# Altium schematic symbol library Amplifier_Audio.SchLib: 99 symbols (part 1 of 2)
Pins are listed as number, name and electrical type; pins without a type are passive.

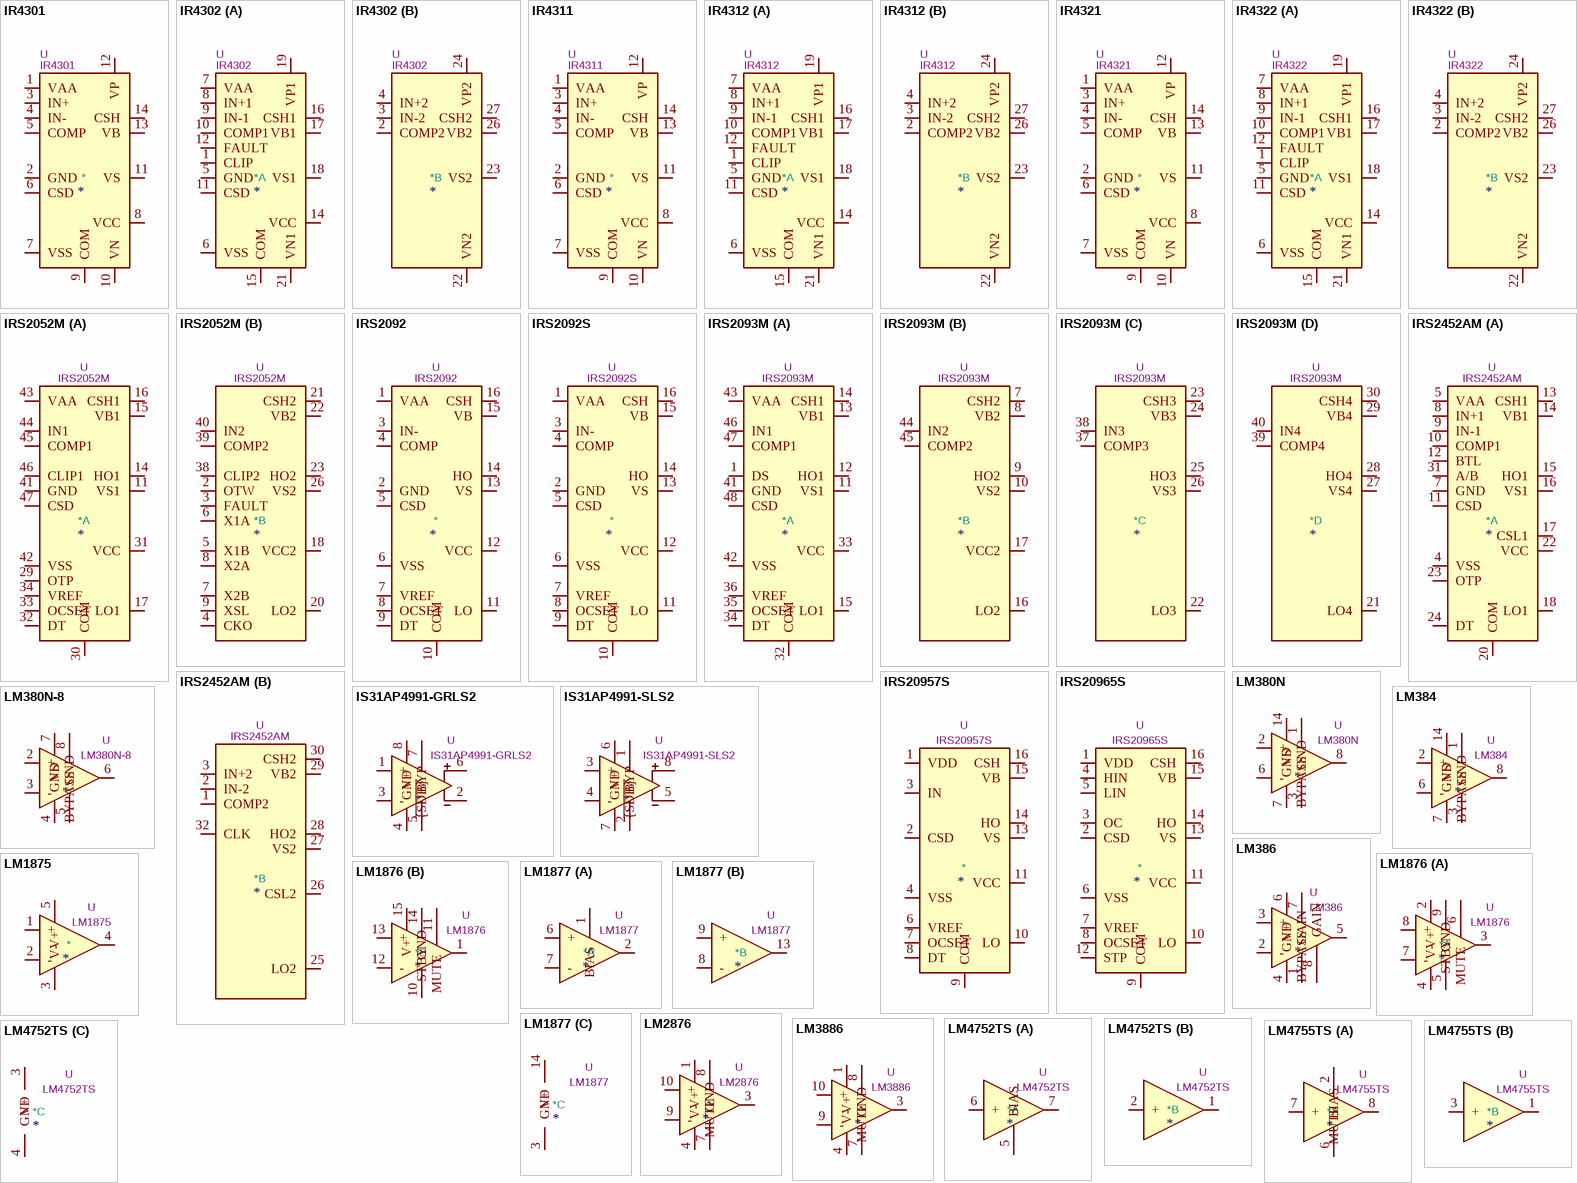
[diagram p0: symbols IR4301 to LM4755TS]

## IR4301
designator *  value IR4301  Reference: U
ki_keywords: integrated class d amplifier; ki_description: PowIRaudio Integrated Analog Input Class D Audio Amplifier, 160W/4ohm, 80V, PQFN-22; ki_fp_filters: Infineon*PQFN*4EP*6x5mm*P0.65mm*; Footprint: Package_DFN_QFN:Infineon_PQFN-22-15-4EP_6x5mm_P0.65mm; Datasheet: https://www.infineon.com/dgdl/ir4301.pdf?fileId=5546d462533600a4015355d5fc691819
pins: 1 VAA, 2 GND, 3 IN+, 4 IN-, 5 COMP, 6 CSD, 7 VSS, 8 VCC, 9 COM, 10 VN, 11 VS, 12 VP, 13 VB, 14 CSH, 15 COM hidden

## IR4302
designator *  value IR4302  Reference: U
ki_keywords: integrated class d amplifier 2ch; ki_description: PowIRaudio 2 Channel Integrated Analog Input Class D Audio Amplifier, 130W/4ohm, 80V, PQFN-44; ki_fp_filters: Infineon*PQFN*5EP*7x7mm*P0.5mm*; Footprint: Package_DFN_QFN:Infineon_PQFN-44-31-5EP_7x7mm_P0.5mm; Datasheet: https://www.infineon.com/dgdl/ir4302.pdf?fileId=5546d462533600a4015355d602a9181d
part A pins: 1 CLIP, 5 GND, 6 VSS, 7 VAA, 8 IN+1, 9 IN-1, 10 COMP1, 11 CSD, 12 FAULT, 13 NC hidden, 14 VCC, 15 COM, 16 CSH1, 17 VB1, 18 VS1, 19 VP1, 20 VS1 hidden, 21 VN1, 28 COM hidden, 29 NC hidden, 30 NC hidden, 31 COM hidden
part B pins: 2 COMP2, 3 IN-2, 4 IN+2, 22 VN2, 23 VS2, 24 VP2, 25 VS2 hidden, 26 VB2, 27 CSH2

## IR4311
designator *  value IR4311  Reference: U
ki_keywords: integrated class d amplifier; ki_description: PowIRaudio Integrated Analog Input Class D Audio Amplifier, 90W/4ohm, 60V, PQFN-22; ki_fp_filters: Infineon*PQFN*4EP*6x5mm*P0.65mm*; Footprint: Package_DFN_QFN:Infineon_PQFN-22-15-4EP_6x5mm_P0.65mm; Datasheet: https://www.infineon.com/dgdl/ir4301.pdf?fileId=5546d462533600a4015355d5fc691819
pins: 1 VAA, 2 GND, 3 IN+, 4 IN-, 5 COMP, 6 CSD, 7 VSS, 8 VCC, 9 COM, 10 VN, 11 VS, 12 VP, 13 VB, 14 CSH, 15 COM hidden

## IR4312
designator *  value IR4312  Reference: U
ki_keywords: integrated class d amplifier 2ch; ki_description: PowIRaudio 2 Channel Integrated Analog Input Class D Audio Amplifier, 100W/4ohm, 60V, PQFN-44; ki_fp_filters: Infineon*PQFN*5EP*7x7mm*P0.5mm*; Footprint: Package_DFN_QFN:Infineon_PQFN-44-31-5EP_7x7mm_P0.5mm; Datasheet: https://www.infineon.com/dgdl/ir4302.pdf?fileId=5546d462533600a4015355d602a9181d
part A pins: 1 CLIP, 5 GND, 6 VSS, 7 VAA, 8 IN+1, 9 IN-1, 10 COMP1, 11 CSD, 12 FAULT, 13 NC hidden, 14 VCC, 15 COM, 16 CSH1, 17 VB1, 18 VS1, 19 VP1, 20 VS1 hidden, 21 VN1, 28 COM hidden, 29 NC hidden, 30 NC hidden, 31 COM hidden
part B pins: 2 COMP2, 3 IN-2, 4 IN+2, 22 VN2, 23 VS2, 24 VP2, 25 VS2 hidden, 26 VB2, 27 CSH2

## IR4321
designator *  value IR4321  Reference: U
ki_keywords: integrated class d amplifier; ki_description: PowIRaudio Integrated Analog Input Class D Audio Amplifier, 35W/4ohm, 40V, PQFN-22; ki_fp_filters: Infineon*PQFN*4EP*6x5mm*P0.65mm*; Footprint: Package_DFN_QFN:Infineon_PQFN-22-15-4EP_6x5mm_P0.65mm; Datasheet: https://www.infineon.com/dgdl/ir4301.pdf?fileId=5546d462533600a4015355d5fc691819
pins: 1 VAA, 2 GND, 3 IN+, 4 IN-, 5 COMP, 6 CSD, 7 VSS, 8 VCC, 9 COM, 10 VN, 11 VS, 12 VP, 13 VB, 14 CSH, 15 COM hidden

## IR4322
designator *  value IR4322  Reference: U
ki_keywords: integrated class d amplifier 2ch; ki_description: PowIRaudio 2 Channel Integrated Analog Input Class D Audio Amplifier, 35W/4ohm, 40V, PQFN-44; ki_fp_filters: Infineon*PQFN*5EP*7x7mm*P0.5mm*; Footprint: Package_DFN_QFN:Infineon_PQFN-44-31-5EP_7x7mm_P0.5mm; Datasheet: https://www.infineon.com/dgdl/ir4302.pdf?fileId=5546d462533600a4015355d602a9181d
part A pins: 1 CLIP, 5 GND, 6 VSS, 7 VAA, 8 IN+1, 9 IN-1, 10 COMP1, 11 CSD, 12 FAULT, 13 NC hidden, 14 VCC, 15 COM, 16 CSH1, 17 VB1, 18 VS1, 19 VP1, 20 VS1 hidden, 21 VN1, 28 COM hidden, 29 NC hidden, 30 NC hidden, 31 COM hidden
part B pins: 2 COMP2, 3 IN-2, 4 IN+2, 22 VN2, 23 VS2, 24 VP2, 25 VS2 hidden, 26 VB2, 27 CSH2

## IRS2052M
designator *  value IRS2052M  Reference: U
ki_keywords: Gate Driver Class D 2ch; ki_description: 2 CH Digital Audio Amplifier, PWM Modulator, +/-100V, 0.5/0.6A, MLPQ-48; ki_fp_filters: Infineon*MLPQ*1EP*7x7mm*P0.5mm*; Footprint: Package_DFN_QFN:Infineon_MLPQ-48-1EP_7x7mm_P0.5mm_EP5.55x5.55mm; Datasheet: https://www.infineon.com/dgdl/irs2052mpbf.pdf?fileId=5546d462533600a401535675d3b32788
part A pins: 1 NC hidden, 10 NC hidden, 11 VS1, 12 NC hidden, 13 NC hidden, 14 HO1, 15 VB1, 16 CSH1, 17 LO1, 19 COM hidden, 24 NC hidden, 25 NC hidden, 27 NC hidden, 28 NC hidden, 29 OTP, 30 COM, 31 VCC, 32 DT, 33 OCSET, 34 VREF, 35 NC hidden, 36 NC hidden, 37 NC hidden, 41 GND, 42 VSS, 43 VAA, 44 IN1, 45 COMP1, 46 CLIP1, 47 CSD, 48 NC hidden, 49 COM hidden
part B pins: 2 OTW, 3 FAULT, 4 CKO, 5 X1B, 6 X1A, 7 X2B, 8 X2A, 9 XSL, 18 VCC2, 20 LO2, 21 CSH2, 22 VB2, 23 HO2, 26 VS2, 38 CLIP2, 39 COMP2, 40 IN2

## IRS2092
designator *  value IRS2092  Reference: U
ki_keywords: Gate Driver Class D; ki_description: Protected Digital Audio Amplifier, PWM Modulator, +/-100V, 1.0/1.2A, PDIP-16; ki_fp_filters: DIP*W7.62mm*; Footprint: Package_DIP:DIP-16_W7.62mm; Datasheet: http://www.infineon.com/dgdl/irs2092.pdf?fileId=5546d462533600a401535675f1be2790
pins: 1 VAA, 2 GND, 3 IN-, 4 COMP, 5 CSD, 6 VSS, 7 VREF, 8 OCSET, 9 DT, 10 COM, 11 LO, 12 VCC, 13 VS, 14 HO, 15 VB, 16 CSH

## IRS2092S
designator *  value IRS2092S  Reference: U
ki_keywords: Gate Driver Class D; ki_description: Protected Digital Audio Amplifier, PWM Modulator, +/-100V, 1.0/1.2A, SOIC-16; ki_fp_filters: SOIC*3.9x9.9mm*P1.27mm*; Footprint: Package_SO:SOIC-16_3.9x9.9mm_P1.27mm; Datasheet: http://www.infineon.com/dgdl/irs2092.pdf?fileId=5546d462533600a401535675f1be2790
pins: 1 VAA, 2 GND, 3 IN-, 4 COMP, 5 CSD, 6 VSS, 7 VREF, 8 OCSET, 9 DT, 10 COM, 11 LO, 12 VCC, 13 VS, 14 HO, 15 VB, 16 CSH

## IRS2093M
designator *  value IRS2093M  Reference: U
ki_keywords: Gate Driver Class D 4ch; ki_description: 4 CH Digital Audio Amplifier, PWM Modulator, +/-100V, 0.5/0.6A, MLPQ-48; ki_fp_filters: Infineon*MLPQ*1EP*7x7mm*P0.5mm*; Footprint: Package_DFN_QFN:Infineon_MLPQ-48-1EP_7x7mm_P0.5mm_EP5.55x5.55mm; Datasheet: https://www.infineon.com/dgdl/irs2093mpbf.pdf?fileId=5546d462533600a401535675fb892793
part A pins: 1 DS, 2 NC hidden, 3 NC hidden, 4 NC hidden, 5 NC hidden, 6 NC hidden, 11 VS1, 12 HO1, 13 VB1, 14 CSH1, 15 LO1, 18 NC hidden, 19 NC hidden, 20 COM hidden, 31 NC hidden, 32 COM, 33 VCC, 34 DT, 35 OCSET, 36 VREF, 41 GND, 42 VSS, 43 VAA, 46 IN1, 47 COMP1, 48 CSD, 49 COM hidden
part B pins: 7 CSH2, 8 VB2, 9 HO2, 10 VS2, 16 LO2, 17 VCC2, 44 IN2, 45 COMP2
part C pins: 22 LO3, 23 CSH3, 24 VB3, 25 HO3, 26 VS3, 37 COMP3, 38 IN3
part D pins: 21 LO4, 27 VS4, 28 HO4, 29 VB4, 30 CSH4, 39 COMP4, 40 IN4

## IRS2452AM
designator *  value IRS2452AM  Reference: U
ki_keywords: Gate Driver Class D 2ch; ki_description: Class D Audio IC, PWM Modulator, +/-200V, 0.5/0.6A, MLPQ-32; ki_fp_filters: Infineon*MLPQ*1EP*7x7mm*P0.5mm*; Footprint: Package_DFN_QFN:Infineon_MLPQ-40-32-1EP_7x7mm_P0.5mm; Datasheet: https://www.infineon.com/dgdl/Infineon-IRS2452AM-DS-v01_00-EN.pdf?fileId=5546d462584d1d4a01584ee4f1f00713
part A pins: 4 VSS, 5 VAA, 6 NC hidden, 7 GND, 8 IN+1, 9 IN-1, 10 COMP1, 11 CSD, 12 BTL, 13 CSH1, 14 VB1, 15 HO1, 16 VS1, 17 CSL1, 18 LO1, 19 NC hidden, 20 COM, 21 NC hidden, 22 VCC, 23 OTP, 24 DT, 31 A/B, 33 COM hidden
part B pins: 1 COMP2, 2 IN-2, 3 IN+2, 25 LO2, 26 CSL2, 27 VS2, 28 HO2, 29 VB2, 30 CSH2, 32 CLK

## IRS20957S
designator *  value IRS20957S  Reference: U
ki_keywords: Gate Driver Class D; ki_description: Protected Digital Audio Driver, +/-100V, 1.0/1.2A, SOIC-16; ki_fp_filters: SOIC*3.9x9.9mm*P1.27mm*; Footprint: Package_SO:SOIC-16_3.9x9.9mm_P1.27mm; Datasheet: http://www.infineon.com/dgdl/irs20957spbf.pdf?fileId=5546d462533600a401535676143e2799
pins: 1 VDD, 2 CSD, 3 IN, 4 VSS, 5 NC hidden, 6 VREF, 7 OCSET, 8 DT, 9 COM, 10 LO, 11 VCC, 12 NC hidden, 13 VS, 14 HO, 15 VB, 16 CSH

## IRS20965S
designator *  value IRS20965S  Reference: U
ki_keywords: Gate Driver Class D; ki_description: Class D Audio Driver, +/-100V, 2.0/2.0A, SOIC-16; ki_fp_filters: SOIC*3.9x9.9mm*P1.27mm*; Footprint: Package_SO:SOIC-16_3.9x9.9mm_P1.27mm; Datasheet: https://www.infineon.com/dgdl/irs20965spbf.pdf?fileId=5546d462533600a4015356761d8b279b
pins: 1 VDD, 2 CSD, 3 OC, 4 HIN, 5 LIN, 6 VSS, 7 VREF, 8 OCSET, 9 COM, 10 LO, 11 VCC, 12 STP, 13 VS, 14 HO, 15 VB, 16 CSH

## IS31AP4991-GRLS2
designator *  value IS31AP4991-GRLS2  Reference: U
ki_keywords: ultra low consumption distortion; ki_description: 1.2W, 2.7-5.5V, Audio Power Amplifier, Active-Low Standby, SOP-8; ki_fp_filters: SOP*3.9x4.9mm*P1.27mm*; Footprint: Package_SO:SOP-8_3.9x4.9mm_P1.27mm; Datasheet: http://www.issi.com/WW/pdf/31AP4991.pdf
pins: 1 +, 2, 3 -, 4 GND, 5 BYP, 6, 7 ~{{SDB}}, 8 V+

## IS31AP4991-SLS2
designator *  value IS31AP4991-SLS2  Reference: U
ki_keywords: ultra low consumption distortion; ki_description: 1.2W, 2.7-5.5V, Audio Power Amplifier, Active-Low Standby, MSOP-8; ki_fp_filters: MSOP*3x3mm*P0.65mm*; Footprint: Package_SO:MSOP-8_3x3mm_P0.65mm; Datasheet: http://www.issi.com/WW/pdf/31AP4991.pdf
pins: 1 ~{{SDB}}, 2 BYP, 3 +, 4 -, 5, 6 V+, 7 GND, 8

## LM380N
designator *  value LM380N  Reference: U
ki_keywords: audio amplifier; ki_description: 2.5W Audio Power Amplifier, PDIP-14; ki_fp_filters: DIP*W7.62mm*; Footprint: Package_DIP:DIP-14_W7.62mm; Datasheet: http://www.ti.com/lit/ds/symlink/lm380.pdf
pins: 1 BYPASS, 2 +, 3 GND, 4 GND hidden, 5 GND hidden, 6 -, 7 GND, 8, 9 NC hidden, 10 GND hidden, 11 GND hidden, 12 GND hidden, 13 NC hidden, 14 VS

## LM380N-8
designator *  value LM380N-8  Reference: U
ki_keywords: audio amplifier; ki_description: 2.5W Audio Power Amplifier, PDIP-8; ki_fp_filters: DIP*W7.62mm*; Footprint: Package_DIP:DIP-8_W7.62mm; Datasheet: http://www.ti.com/lit/ds/symlink/lm380.pdf
pins: 1 NC hidden, 2 +, 3 -, 4 GND, 5 GND, 6, 7 VS, 8 BYPASS

## LM384
designator *  value LM384  Reference: U
ki_keywords: audio amplifier; ki_description: 5W Audio Power Amplifier, PDIP-14; ki_fp_filters: DIP*W7.62mm*; Footprint: Package_DIP:DIP-14_W7.62mm; Datasheet: http://www.ti.com/lit/ds/symlink/lm384.pdf
pins: 1 BYPASS, 2 +, 3 GND, 4 GND hidden, 5 GND hidden, 6 -, 7 GND, 8, 9 NC hidden, 10 GND hidden, 11 GND hidden, 12 GND hidden, 13 NC hidden, 14 VS

## LM386
designator *  value LM386  Reference: U
ki_keywords: single Power opamp; ki_description: Low Voltage Audio Power Amplifier, DIP-8/SOIC-8/SSOP-8; ki_fp_filters: SOIC*3.9x4.9mm*P1.27mm* DIP*W7.62mm* MSSOP*P0.65mm* TSSOP*3x3mm*P0.5mm*; Datasheet: http://www.ti.com/lit/ds/symlink/lm386.pdf
pins: 1 GAIN, 2 -, 3 +, 4 GND, 5, 6 V+, 7 BYPASS, 8 GAIN

## LM1875
designator *  value LM1875  Reference: U
ki_keywords: audio amplifier; ki_description: 20W Audio Power Amplifier, TO-220-5; ki_fp_filters: TO?220*StaggerOdd*; Footprint: Package_TO_SOT_THT:TO-220-5_P3.4x3.7mm_StaggerOdd_Lead3.8mm_Vertical; Datasheet: http://www.ti.com/lit/ds/symlink/lm1875.pdf
pins: 1 +, 2 -, 3 V-, 4, 5 V+

## LM1876
designator *  value LM1876  Reference: U
ki_keywords: audio amplifier 2ch; ki_description: Overture Audio Power Amplifier Series Dual 20W Audio Power Amplifier with Mute and Standby Modes, TO-220-15; ki_fp_filters: TO?220*StaggerOdd*; Footprint: Package_TO_SOT_THT:TO-220-15_P2.54x2.54mm_StaggerOdd_Lead4.58mm_Vertical; Datasheet: http://www.ti.com/lit/ds/symlink/lm1876.pdf
part A pins: 2 V+, 3, 4 V-, 5 GND, 6 MUTE, 7 -, 8 +, 9 STBY
part B pins: 1, 10 GND, 11 MUTE, 12 -, 13 +, 14 STBY, 15 V+

## LM1877
designator *  value LM1877  Reference: U
ki_keywords: audio amplifier 2ch; ki_description: Dual Audio Power Amplifier, PDIP-14/SOIC-14; ki_fp_filters: SOIC*7.5x9mm*P1.27mm* DIP*W7.62mm*; Datasheet: http://www.ti.com/lit/ds/symlink/lm1877.pdf
part A pins: 1 BIAS, 2, 6 +, 7 -
part B pins: 8 -, 9 +, 13
part C pins: 3 GND, 4 GND hidden, 5 GND hidden, 10 GND hidden, 11 GND hidden, 12 GND hidden, 14 V+

## LM2876
designator *  value LM2876  Reference: U
ki_keywords: audio amplifier 2ch; ki_description: Overture Audio Power Amplifier Series High-Performance 40W Audio Power Amplifier w/Mute, TO-220-11; ki_fp_filters: TO?220*StaggerOdd*; Footprint: Package_TO_SOT_THT:TO-220-11_P3.4x5.08mm_StaggerOdd_Lead4.85mm_Vertical; Datasheet: http://www.ti.com/lit/ds/symlink/lm2876.pdf
pins: 1 V+, 2 NC hidden, 3, 4 V-, 5 NC hidden, 6 NC hidden, 7 GND, 8 MUTE, 9 -, 10 +, 11 NC hidden

## LM3886
designator *  value LM3886  Reference: U
ki_keywords: audio amplifier; ki_description: Overture Audio Power Amplifier Series High-Performance 68W Audio Power Amplifier w/Mute, TO-220-11; ki_fp_filters: TO?220*StaggerOdd*; Footprint: Package_TO_SOT_THT:TO-220-11_P3.4x5.08mm_StaggerOdd_Lead4.85mm_Vertical; Datasheet: http://www.ti.com/lit/ds/symlink/lm3886.pdf
pins: 1 V+, 2 NC hidden, 3, 4 V-, 5 V+ hidden, 6 NC hidden, 7 GND, 8 MUTE, 9 -, 10 +, 11 NC hidden

## LM4752TS
designator *  value LM4752TS  Reference: U
ki_keywords: audio amplifier 2ch; ki_description: Stereo 11W Audio Power Amplifier, TO-263-7; ki_fp_filters: TO?263*TabPin4*; Footprint: Package_TO_SOT_SMD:TO-263-7_TabPin4; Datasheet: http://www.ti.com/lit/ds/symlink/lm4752.pdf
part A pins: 5 BIAS, 6 +, 7
part B pins: 1, 2 +
part C pins: 3 V+, 4 GND

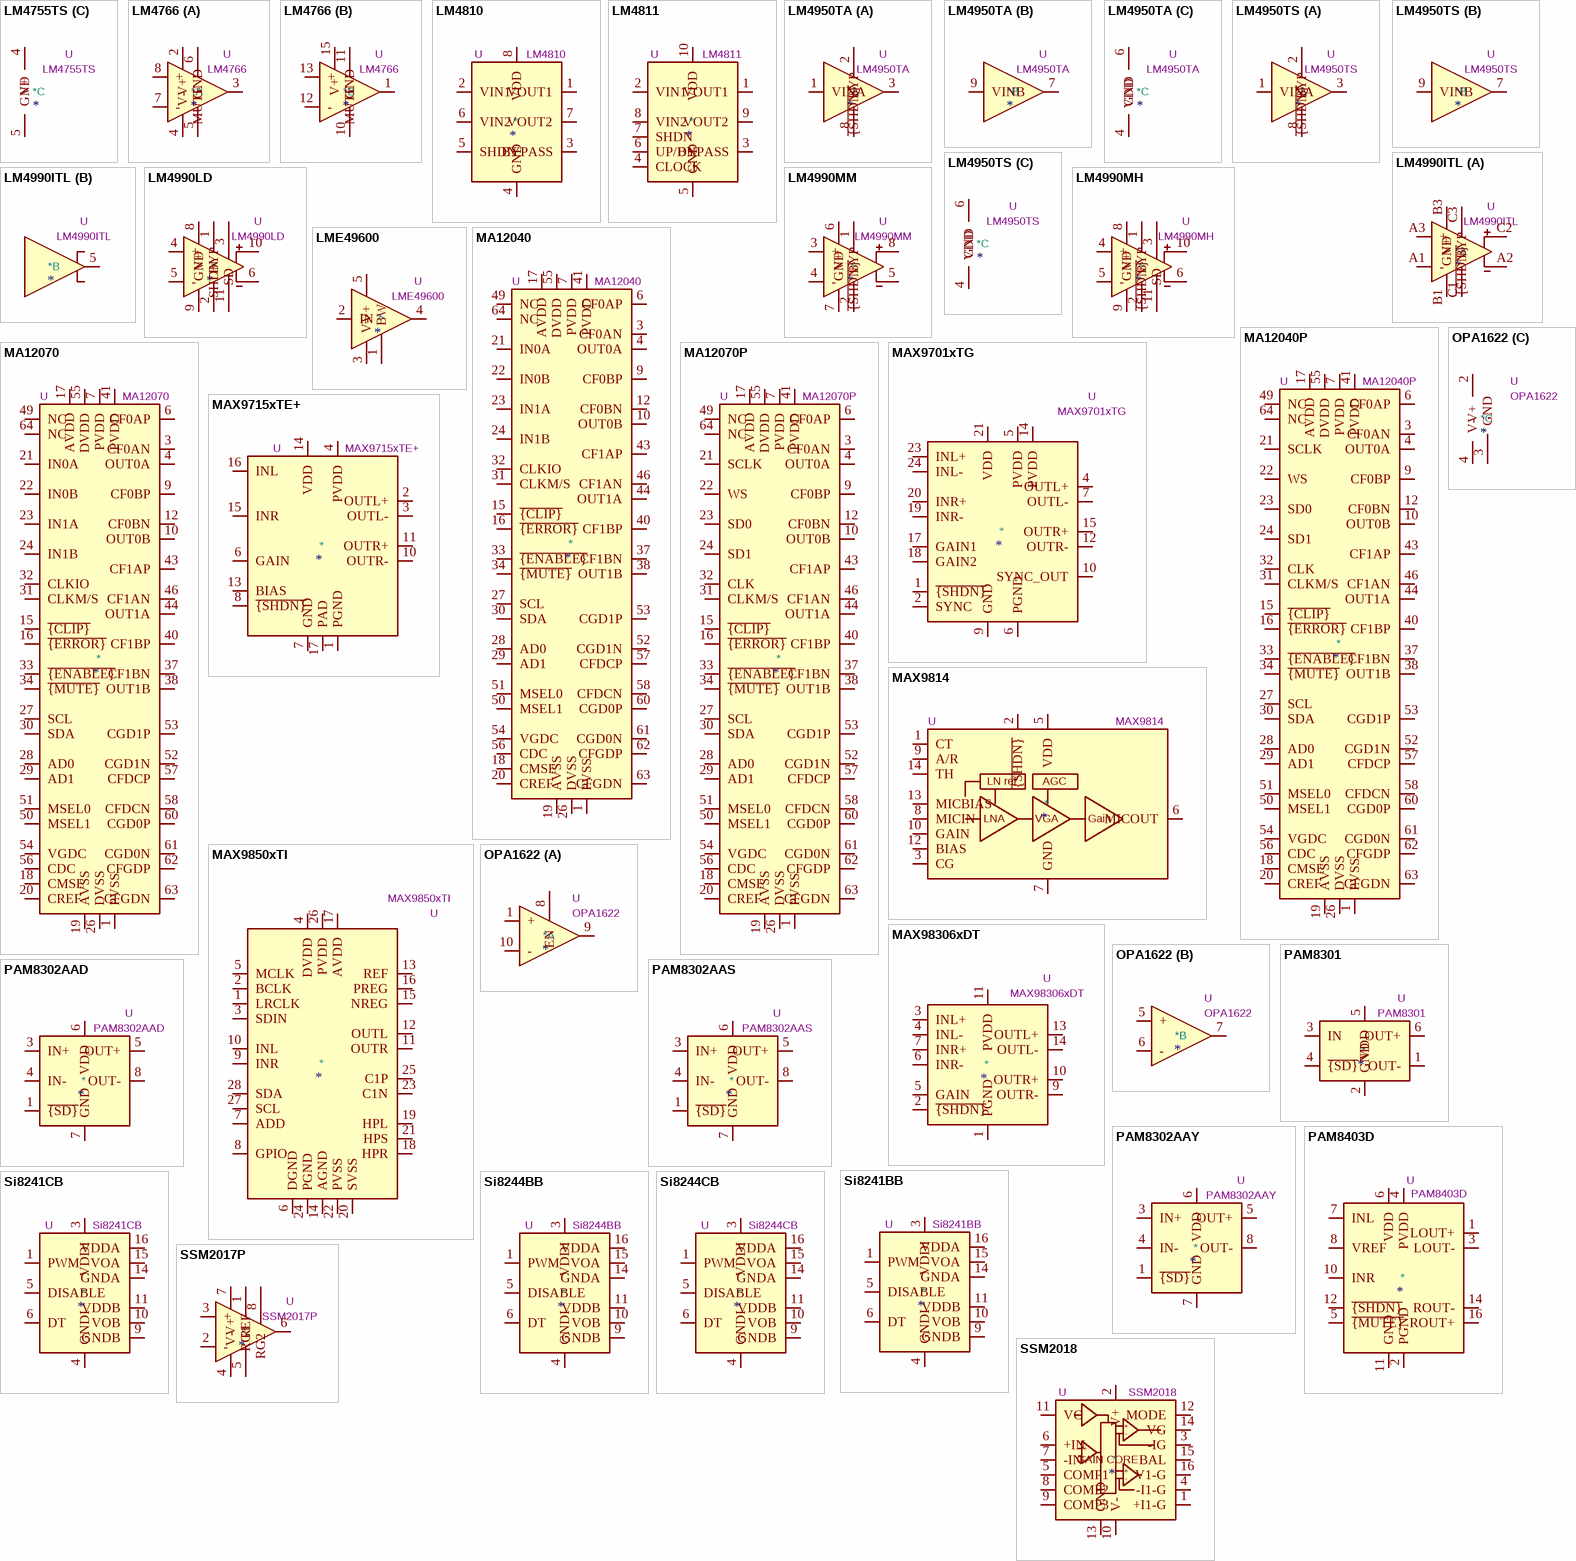
[diagram p1: symbols LM4755TS to SSM2018]

## LM4755TS
designator *  value LM4755TS  Reference: U
ki_keywords: audio amplifier 2ch; ki_description: Stereo 11W Audio Power Amplifier with Mute, TO-263-9; ki_fp_filters: TO?263*TabPin5*; Footprint: Package_TO_SOT_SMD:TO-263-9_TabPin5; Datasheet: http://www.ti.com/lit/ds/symlink/lm4755.pdf
part A pins: 2 MUTE, 6 BIAS, 7 +, 8, 9 NC hidden
part B pins: 1, 3 +
part C pins: 4 V+, 5 GND

## LM4766
designator *  value LM4766  Reference: U
ki_keywords: audio amplifier 2ch; ki_description: Overture Audio Power Amplifier Series Dual 40W Audio Power Amplifier with Mute, TO-220-15; ki_fp_filters: TO?220*StaggerOdd*; Footprint: Package_TO_SOT_THT:TO-220-15_P2.54x2.54mm_StaggerOdd_Lead4.58mm_Vertical; Datasheet: http://www.ti.com/lit/ds/symlink/lm4766.pdf
part A pins: 2 V+, 3, 4 V-, 5 GND, 6 MUTE, 7 -, 8 +, 9 NC hidden
part B pins: 1, 10 GND, 11 MUTE, 12 -, 13 +, 14 NC hidden, 15 V+

## LM4810
designator *  value LM4810  Reference: U
ki_keywords: audio amplifier headphone; ki_description: Boomer Dual 105mW Headphone Amplifier with Active-High Shutdown Mode, VSSOP-8; ki_fp_filters: TSSOP*3x3mm*P0.65mm*; Footprint: Package_SO:TSSOP-8_3x3mm_P0.65mm; Datasheet: http://www.ti.com/lit/ds/symlink/lm4810.pdf
pins: 1 VOUT1, 2 VIN1, 3 BYPASS, 4 GND, 5 SHDN, 6 VIN2, 7 VOUT2, 8 VDD

## LM4811
designator *  value LM4811  Reference: U
ki_keywords: audio amplifier headphone 2ch; ki_description: Boomer Dual 105mW Headphone Amplifier with Digital Volume Control and Shutdown Mode, VSSOP-10; ki_fp_filters: TSSOP*3x3mm*P0.5mm*; Footprint: Package_SO:TSSOP-10_3x3mm_P0.5mm; Datasheet: http://www.ti.com/lit/ds/symlink/lm4811.pdf
pins: 1 VOUT1, 2 VIN1, 3 BYPASS, 4 CLOCK, 5 GND, 6 UP/DN, 7 SHDN, 8 VIN2, 9 VOUT2, 10 VDD

## LM4950TA
designator *  value LM4950TA  Reference: U
ki_keywords: audio amplifier; ki_description: Boomer Audio Power Amplifier Series 7.5W Mono-BTL or 3.1W Stereo Audio Power Amplifier, TO-220-9; ki_fp_filters: TO?220*StaggerOdd*; Footprint: Package_TO_SOT_THT:TO-220-5_P3.4x3.7mm_StaggerOdd_Lead3.8mm_Vertical; Datasheet: http://www.ti.com/lit/ds/symlink/lm4950.pdf
part A pins: 1 VINA, 2 ~{{SHDN}}, 3, 8 BYP
part B pins: 7, 9 VINB
part C pins: 4 GND, 5 GND hidden, 6 VDD

## LM4950TS
designator *  value LM4950TS  Reference: U
ki_keywords: audio amplifier; ki_description: Boomer Audio Power Amplifier Series 7.5W Mono-BTL or 3.1W Stereo Audio Power Amplifier, TO-263-9; ki_fp_filters: TO?263*TabPin5*; Footprint: Package_TO_SOT_SMD:TO-263-9_TabPin5; Datasheet: http://www.ti.com/lit/ds/symlink/lm4950.pdf
part A pins: 1 VINA, 2 ~{{SHDN}}, 3, 8 BYP
part B pins: 7, 9 VINB
part C pins: 4 GND, 5 GND hidden, 6 VDD

## LM4990ITL
designator *  value LM4990ITL  Reference: U
ki_keywords: audio amplifier class d; ki_description: Boomer 2 Watt Audio Power Amplifier with Selectable Shutdown Logic Level, DSBGA-9; ki_fp_filters: *DSBGA*1.4715x1.4715mm*P0.5mm*; Footprint: Package_BGA:Texas_DSBGA-9_1.4715x1.4715mm_Layout3x3_P0.5mm; Datasheet: http://www.ti.com/lit/ds/symlink/lm4990.pdf
part A pins: A1 -, A2, A3 +, B1 GND, B2 GND hidden, B3 V+, C1 BYP, C2, C3 ~{{SHDN}}
part B pins: 5

## LM4990LD
designator *  value LM4990LD  Reference: U
ki_keywords: audio amplifier class d; ki_description: Boomer 2 Watt Audio Power Amplifier with Selectable Shutdown Logic Level, WSON-10; ki_fp_filters: WSON*EP*4x3mm*P0.5mm*; Footprint: Package_SON:WSON-10-1EP_4x3mm_P0.5mm_EP2.2x2mm; Datasheet: http://www.ti.com/lit/ds/symlink/lm4990.pdf
pins: 1 SHDN, 2 BYP, 3 SD, 4 +, 5 -, 6, 7 NC hidden, 8 V+, 9 GND, 10, 11

## LM4990MH
designator *  value LM4990MH  Reference: U
ki_keywords: audio amplifier class d; ki_description: Boomer 2 Watt Audio Power Amplifier with Selectable Shutdown Logic Level, MSOP-10; ki_fp_filters: MSOP*EP*3x3mm*P0.5mm*; Footprint: Package_SO:MSOP-10-1EP_3x3mm_P0.5mm_EP1.68x1.88mm; Datasheet: http://www.ti.com/lit/ds/symlink/lm4990.pdf
pins: 1 ~{{SHDN}}, 2 BYP, 3 SD, 4 +, 5 -, 6, 7 NC hidden, 8 V+, 9 GND, 10, 11

## LM4990MM
designator *  value LM4990MM  Reference: U
ki_keywords: audio amplifier class d; ki_description: Boomer 2 Watt Audio Power Amplifier with Selectable Shutdown Logic Level, VSSOP-8; ki_fp_filters: TSSOP*3x3mm*P0.65mm*; Footprint: Package_SO:TSSOP-8_3x3mm_P0.65mm; Datasheet: http://www.ti.com/lit/ds/symlink/lm4990.pdf
pins: 1 ~{{SHDN}}, 2 BYP, 3 +, 4 -, 5, 6 V+, 7 GND, 8

## LME49600
designator *  value LME49600  Reference: U
ki_keywords: audio buffer amplifier; ki_description: High-Performance, High-Fidelity, High-Current Headphone Buffer, 250mA, TO-263; ki_fp_filters: TO?263*; Footprint: Package_TO_SOT_SMD:TO-263-5_TabPin3; Datasheet: http://www.ti.com/lit/ds/symlink/lme49600.pdf
pins: 1 BW, 2 IN, 3 V-, 4, 5 V+

## MA12040
designator *  value MA12040  Reference: U
ki_keywords: integrated class d amplifier; ki_description: Filterless and High-Efficiency +4V to +18V Audio Amplifier with Analog Input, QFN-64; ki_fp_filters: QFN*1EP*9x9mm*P0.5mm*; Footprint: Package_DFN_QFN:QFN-64-1EP_9x9mm_P0.5mm_EP5.45x5.45mm; Datasheet: https://www.infineon.com/dgdl/Infineon-MA12040-DS-v01_00-EN.pdf?fileId=5546d46264a8de7e0164b7467a3d617c
pins: 1 PVSS, 2 PVSS hidden, 3 CF0AN, 4 OUT0A, 5 OUT0A hidden, 6 CF0AP, 7 PVDD, 8 PVDD hidden, 9 CF0BP, 10 OUT0B, 11 OUT0B hidden, 12 CF0BN, 13 PVSS hidden, 14 PVSS hidden, 15 ~{{CLIP}}, 16 ~{{ERROR}}, 17 AVDD, 18 CMSE, 19 AVSS, 20 CREF, 21 IN0A, 22 IN0B, 23 IN1A, 24 IN1B, 25 AVSS hidden, 26 DVSS, 27 SCL, 28 AD0, 29 AD1, 30 SDA, 31 CLKM/S, 32 CLKIO, 33 ~{{ENABLE}}, 34 ~{{MUTE}}, 35 PVSS hidden, 36 PVSS hidden, 37 CF1BN, 38 OUT1B, 39 OUT1B hidden, 40 CF1BP, 41 PVDD, 42 PVDD hidden, 43 CF1AP, 44 OUT1A, 45 OUT1A hidden, 46 CF1AN, 47 PVSS hidden, 48 PVSS hidden, 49 NC, 50 MSEL1, 51 MSEL0, 52 CGD1N, 53 CGD1P, 54 VGDC, 55 DVDD, 56 CDC, 57 CFDCP, 58 CFDCN, 59 DVSS hidden, 60 CGD0P, 61 CGD0N, 62 CFGDP, 63 CFGDN, 64 NC

## MA12040P
designator *  value MA12040P  Reference: U
ki_keywords: integrated class d amplifier; ki_description: Filterless and High-Efficiency +4V to +18V Audio Amplifier with I2S Digital Input, QFN-64; ki_fp_filters: QFN*1EP*9x9mm*P0.5mm*; Footprint: Package_DFN_QFN:QFN-64-1EP_9x9mm_P0.5mm_EP5.45x5.45mm; Datasheet: https://www.infineon.com/dgdl/Infineon-MA12040P-DS-v01_00-EN.pdf?fileId=5546d46264a8de7e0164b74ff0e561a2
pins: 1 PVSS, 2 PVSS hidden, 3 CF0AN, 4 OUT0A, 5 OUT0A hidden, 6 CF0AP, 7 PVDD, 8 PVDD hidden, 9 CF0BP, 10 OUT0B, 11 OUT0B hidden, 12 CF0BN, 13 PVSS hidden, 14 PVSS hidden, 15 ~{{CLIP}}, 16 ~{{ERROR}}, 17 AVDD, 18 CMSE, 19 AVSS, 20 CREF, 21 SCLK, 22 WS, 23 SD0, 24 SD1, 25 AVSS hidden, 26 DVSS, 27 SCL, 28 AD0, 29 AD1, 30 SDA, 31 CLKM/S, 32 CLK, 33 ~{{ENABLE}}, 34 ~{{MUTE}}, 35 PVSS hidden, 36 PVSS hidden, 37 CF1BN, 38 OUT1B, 39 OUT1B hidden, 40 CF1BP, 41 PVDD, 42 PVDD hidden, 43 CF1AP, 44 OUT1A, 45 OUT1A hidden, 46 CF1AN, 47 PVSS hidden, 48 PVSS hidden, 49 NC, 50 MSEL1, 51 MSEL0, 52 CGD1N, 53 CGD1P, 54 VGDC, 55 DVDD, 56 CDC, 57 CFDCP, 58 CFDCN, 59 DVSS hidden, 60 CGD0P, 61 CGD0N, 62 CFGDP, 63 CFGDN, 64 NC

## MA12070
designator *  value MA12070  Reference: U
ki_keywords: integrated class d amplifier; ki_description: Filterless and High-Efficiency +4V to +26V Audio Amplifier with Analog Input, QFN-64; ki_fp_filters: QFN*1EP*9x9mm*P0.5mm*; Footprint: Package_DFN_QFN:QFN-64-1EP_9x9mm_P0.5mm_EP5.45x5.45mm; Datasheet: https://www.infineon.com/dgdl/Infineon-MA12070-DS-v01_00-EN.pdf?fileId=5546d46264a8de7e0164b750002861a5
pins: 1 PVSS, 2 PVSS hidden, 3 CF0AN, 4 OUT0A, 5 OUT0A hidden, 6 CF0AP, 7 PVDD, 8 PVDD hidden, 9 CF0BP, 10 OUT0B, 11 OUT0B hidden, 12 CF0BN, 13 PVSS hidden, 14 PVSS hidden, 15 ~{{CLIP}}, 16 ~{{ERROR}}, 17 AVDD, 18 CMSE, 19 AVSS, 20 CREF, 21 IN0A, 22 IN0B, 23 IN1A, 24 IN1B, 25 AVSS hidden, 26 DVSS, 27 SCL, 28 AD0, 29 AD1, 30 SDA, 31 CLKM/S, 32 CLKIO, 33 ~{{ENABLE}}, 34 ~{{MUTE}}, 35 PVSS hidden, 36 PVSS hidden, 37 CF1BN, 38 OUT1B, 39 OUT1B hidden, 40 CF1BP, 41 PVDD, 42 PVDD hidden, 43 CF1AP, 44 OUT1A, 45 OUT1A hidden, 46 CF1AN, 47 PVSS hidden, 48 PVSS hidden, 49 NC, 50 MSEL1, 51 MSEL0, 52 CGD1N, 53 CGD1P, 54 VGDC, 55 DVDD, 56 CDC, 57 CFDCP, 58 CFDCN, 59 DVSS hidden, 60 CGD0P, 61 CGD0N, 62 CFGDP, 63 CFGDN, 64 NC

## MA12070P
designator *  value MA12070P  Reference: U
ki_keywords: integrated class d amplifier; ki_description: Filterless and High-Efficiency +4V to +26V Audio Amplifier with I2S Digital Input, QFN-64; ki_fp_filters: QFN*1EP*9x9mm*P0.5mm*; Footprint: Package_DFN_QFN:QFN-64-1EP_9x9mm_P0.5mm_EP5.45x5.45mm; Datasheet: https://www.infineon.com/dgdl/Infineon-MA12070P-DS-v01_00-EN.pdf?fileId=5546d46264a8de7e0164b761f2f261e4
pins: 1 PVSS, 2 PVSS hidden, 3 CF0AN, 4 OUT0A, 5 OUT0A hidden, 6 CF0AP, 7 PVDD, 8 PVDD hidden, 9 CF0BP, 10 OUT0B, 11 OUT0B hidden, 12 CF0BN, 13 PVSS hidden, 14 PVSS hidden, 15 ~{{CLIP}}, 16 ~{{ERROR}}, 17 AVDD, 18 CMSE, 19 AVSS, 20 CREF, 21 SCLK, 22 WS, 23 SD0, 24 SD1, 25 AVSS hidden, 26 DVSS, 27 SCL, 28 AD0, 29 AD1, 30 SDA, 31 CLKM/S, 32 CLK, 33 ~{{ENABLE}}, 34 ~{{MUTE}}, 35 PVSS hidden, 36 PVSS hidden, 37 CF1BN, 38 OUT1B, 39 OUT1B hidden, 40 CF1BP, 41 PVDD, 42 PVDD hidden, 43 CF1AP, 44 OUT1A, 45 OUT1A hidden, 46 CF1AN, 47 PVSS hidden, 48 PVSS hidden, 49 NC, 50 MSEL1, 51 MSEL0, 52 CGD1N, 53 CGD1P, 54 VGDC, 55 DVDD, 56 CDC, 57 CFDCP, 58 CFDCN, 59 DVSS hidden, 60 CGD0P, 61 CGD0N, 62 CFGDP, 63 CFGDN, 64 NC

## MAX9701xTG
designator *  value MAX9701xTG  Reference: U
ki_keywords: stereo power amplifier; ki_description: Stereo class D power amplifier, 1.3W, TQFN-24; ki_fp_filters: TQFN*1EP*4x4mm*P0.5mm*; Footprint: Package_DFN_QFN:TQFN-24-1EP_4x4mm_P0.5mm_EP2.6x2.6mm; Datasheet: https://datasheets.maximintegrated.com/en/ds/MAX9701.pdf
pins: 1 ~{{SHDN}}, 2 SYNC, 3 NC hidden, 4 OUTL+, 5 PVDD, 6 PGND, 7 OUTL-, 8 NC hidden, 9 GND, 10 SYNC_OUT, 11 NC hidden, 12 OUTR-, 13 PGND hidden, 14 PVDD, 15 OUTR+, 16 NC hidden, 17 GAIN1, 18 GAIN2, 19 INR-, 20 INR+, 21 VDD, 22 GND hidden, 23 INL+, 24 INL-, 25 GND hidden

## MAX9715xTE+
designator *  value MAX9715xTE+  Reference: U
ki_keywords: Class-D Stereo; ki_description: 2.8W, Low-EMI, Stereo, Filterless Class D Audio Amplifier, TQFN-16; ki_fp_filters: TQFN*1EP*5x5mm*P0.8mm*; Footprint: Package_DFN_QFN:TQFN-16-1EP_5x5mm_P0.8mm_EP3.1x3.1mm; Datasheet: https://datasheets.maximintegrated.com/en/ds/MAX9715.pdf
pins: 1 PGND, 2 OUTL+, 3 OUTL-, 4 PVDD, 5 NC hidden, 6 GAIN, 7 GND, 8 ~{{SHDN}}, 9 PVDD hidden, 10 OUTR-, 11 OUTR+, 12 PGND hidden, 13 BIAS, 14 VDD, 15 INR, 16 INL, 17 PAD

## MAX9814
designator *  value MAX9814  Reference: U
ki_keywords: audio microphone amplifier; ki_description: Microphone Amplifier with AGC and Low-Noise Microphone Bias, TDFN-14; ki_fp_filters: *DFN*EP*3x3mm*P0.4mm*; Footprint: Package_DFN_QFN:DFN-14-1EP_3x3mm_P0.4mm_EP1.78x2.35mm; Datasheet: https://datasheets.maximintegrated.com/en/ds/MAX9814.pdf
pins: 1 CT, 2 ~{{SHDN}}, 3 CG, 4 GND hidden, 5 VDD, 6 MICOUT, 7 GND, 8 MICIN, 9 A/R, 10 GAIN, 11 GND hidden, 12 BIAS, 13 MICBIAS, 14 TH, 15 GND hidden
text: LN ref; AGC; LNA; VGA; Gain

## MAX9850xTI
designator *  value MAX9850xTI  Reference: U
ki_keywords: audio ampflifier stereo i2s; ki_description: Stereo audio DAC with headphone amplifier, TQFN-28; ki_fp_filters: TQFN*1EP*5x5mm*P0.5mm*; Footprint: Package_DFN_QFN:TQFN-28-1EP_5x5mm_P0.5mm_EP3.25x3.25mm_ThermalVias; Datasheet: https://datasheets.maximintegrated.com/en/ds/MAX9850.pdf
pins: 1 LRCLK, 2 BCLK, 3 SDIN, 4 DVDD, 5 MCLK, 6 DGND, 7 ADD, 8 GPIO, 9 INR, 10 INL, 11 OUTR, 12 OUTL, 13 REF, 14 AGND, 15 NREG, 16 PREG, 17 AVDD, 18 HPR, 19 HPL, 20 SVSS, 21 HPS, 22 PVSS, 23 C1N, 24 PGND, 25 C1P, 26 PVDD, 27 SCL, 28 SDA, 29 AGND hidden

## MAX98306xDT
designator *  value MAX98306xDT  Reference: U
ki_keywords: Class-D stereo amplifier; ki_description: Stereo 3.7 W Class D Amplifier, TDFN-14; ki_fp_filters: TDFN*1EP*3x3mm*P0.4mm*; Footprint: Package_DFN_QFN:TDFN-14-1EP_3x3mm_P0.4mm_EP1.78x2.35mm; Datasheet: https://datasheets.maximintegrated.com/en/ds/MAX98306.pdf
pins: 1 PGND, 2 ~{{SHDN}}, 3 INL+, 4 INL-, 5 GAIN, 6 INR-, 7 INR+, 8 PGND hidden, 9 OUTR-, 10 OUTR+, 11 PVDD, 12 PVDD hidden, 13 OUTL+, 14 OUTL-, 15 PGND hidden

## OPA1622
designator *  value OPA1622  Reference: U
ki_keywords: dual opamp audio; ki_description: High-Fidelity, Bipolar-Input, Audio Operational Amplifier, VSON-10; ki_fp_filters: Texas*PVSON*; Footprint: Package_SON:Texas_S-PVSON-N10; Datasheet: http://www.ti.com/lit/ds/symlink/opa1622.pdf
part A pins: 1 +, 8 EN, 9, 10 -
part B pins: 5 +, 6 -, 7
part C pins: 2 V+, 3 GND, 4 V-, 11 V- hidden

## PAM8301
designator *  value PAM8301  Reference: U
ki_keywords: audio amplifier class d; ki_description: Filterless Class-D Mono Audio Amplifier, 1.5W, TSOT-26; ki_fp_filters: SOT?23*; Footprint: Package_TO_SOT_SMD:SOT-23-6; Datasheet: https://www.diodes.com/assets/Datasheets/PAM8301.pdf
pins: 1 OUT-, 2 GND, 3 IN, 4 ~{{SD}}, 5 VDD, 6 OUT+

## PAM8302AAD
designator *  value PAM8302AAD  Reference: U
ki_keywords: audio amplifier class d; ki_description: 2.5W Filterless Class-D Mono Audio Amplifier, SOIC-8; ki_fp_filters: MSOP*3x3mm*P0.65mm* SOIC*3.9x4.9mm*P1.27mm*; Datasheet: https://www.diodes.com/assets/Datasheets/PAM8302A.pdf
pins: 1 ~{{SD}}, 2 NC hidden, 3 IN+, 4 IN-, 5 OUT+, 6 VDD, 7 GND, 8 OUT-

## PAM8302AAS
designator *  value PAM8302AAS  Reference: U
ki_keywords: audio amplifier class d; ki_description: 2.5W Filterless Class-D Mono Audio Amplifier, MSOP-8; ki_fp_filters: MSOP*3x3mm*P0.65mm* SOIC*3.9x4.9mm*P1.27mm*; Datasheet: https://www.diodes.com/assets/Datasheets/PAM8302A.pdf
pins: 1 ~{{SD}}, 2 NC hidden, 3 IN+, 4 IN-, 5 OUT+, 6 VDD, 7 GND, 8 OUT-

## PAM8302AAY
designator *  value PAM8302AAY  Reference: U
ki_keywords: audio amplifier class d; ki_description: 2.5W Filterless Class-D Mono Audio Amplifier, DFN-8; ki_fp_filters: DFN*EP*3x3mm*P0.65mm*; Footprint: Package_DFN_QFN:DFN-8-1EP_3x3mm_P0.65mm_EP1.55x2.4mm; Datasheet: https://www.diodes.com/assets/Datasheets/PAM8302A.pdf
pins: 1 ~{{SD}}, 2 NC hidden, 3 IN+, 4 IN-, 5 OUT+, 6 VDD, 7 GND, 8 OUT-

## PAM8403D
designator *  value PAM8403D  Reference: U
ki_keywords: audio amplifier class d; ki_description: 3W Filterless Class-D Stereo Audio Amplifier, SOP-16; ki_fp_filters: SOP*3.9x9.9mm*P1.27mm*; Footprint: Package_SO:SOP-16_3.9x9.9mm_P1.27mm; Datasheet: https://www.diodes.com/assets/Datasheets/PAM8403.pdf
pins: 1 LOUT+, 2 PGND, 3 LOUT-, 4 PVDD, 5 ~{{MUTE}}, 6 VDD, 7 INL, 8 VREF, 9 NC hidden, 10 INR, 11 GND, 12 ~{{SHDN}}, 13 PVDD hidden, 14 ROUT-, 15 PGND hidden, 16 ROUT+

## Si8241BB
designator *  value Si8241BB  Reference: U
ki_keywords: class d gate driver; ki_description: Class D Audio Driver With Precision Dead-Time Generator, 8V UVLO, +/-750V, +0.5/-0.5A, SOIC-16; ki_fp_filters: SOIC*3.9x9.9*P1.27mm*; Footprint: Package_SO:SOIC-16_3.9x9.9mm_P1.27mm; Datasheet: https://www.silabs.com/documents/public/data-sheets/Si824x.pdf
pins: 1 PWM, 2 NC hidden, 3 VDDI, 4 GNDI, 5 DISABLE, 6 DT, 7 NC hidden, 8 VDDI hidden, 9 GNDB, 10 VOB, 11 VDDB, 12 NC hidden, 13 NC hidden, 14 GNDA, 15 VOA, 16 VDDA

## Si8241CB
designator *  value Si8241CB  Reference: U
ki_keywords: class d gate driver; ki_description: Class D Audio Driver With Precision Dead-Time Generator, 10V UVLO, +/-750V, +0.5/-0.5A, SOIC-16; ki_fp_filters: SOIC*3.9x9.9*P1.27mm*; Footprint: Package_SO:SOIC-16_3.9x9.9mm_P1.27mm; Datasheet: https://www.onsemi.com/pub/Collateral/NCD5702-D.PDF
pins: 1 PWM, 2 NC hidden, 3 VDDI, 4 GNDI, 5 DISABLE, 6 DT, 7 NC hidden, 8 VDDI hidden, 9 GNDB, 10 VOB, 11 VDDB, 12 NC hidden, 13 NC hidden, 14 GNDA, 15 VOA, 16 VDDA

## Si8244BB
designator *  value Si8244BB  Reference: U
ki_keywords: class d gate driver; ki_description: Class D Audio Driver With Precision Dead-Time Generator, 8V UVLO, +/-750V, +4/-4A, SOIC-16; ki_fp_filters: SOIC*3.9x9.9*P1.27mm*; Footprint: Package_SO:SOIC-16_3.9x9.9mm_P1.27mm; Datasheet: https://www.onsemi.com/pub/Collateral/NCD5702-D.PDF
pins: 1 PWM, 2 NC hidden, 3 VDDI, 4 GNDI, 5 DISABLE, 6 DT, 7 NC hidden, 8 VDDI hidden, 9 GNDB, 10 VOB, 11 VDDB, 12 NC hidden, 13 NC hidden, 14 GNDA, 15 VOA, 16 VDDA

## Si8244CB
designator *  value Si8244CB  Reference: U
ki_keywords: class d gate driver; ki_description: Class D Audio Driver With Precision Dead-Time Generator, 10V UVLO, +/-750V, +4/-4A, SOIC-16; ki_fp_filters: SOIC*3.9x9.9*P1.27mm*; Footprint: Package_SO:SOIC-16_3.9x9.9mm_P1.27mm; Datasheet: https://www.onsemi.com/pub/Collateral/NCD5702-D.PDF
pins: 1 PWM, 2 NC hidden, 3 VDDI, 4 GNDI, 5 DISABLE, 6 DT, 7 NC hidden, 8 VDDI hidden, 9 GNDB, 10 VOB, 11 VDDB, 12 NC hidden, 13 NC hidden, 14 GNDA, 15 VOA, 16 VDDA

## SSM2017P
designator *  value SSM2017P  Reference: U
ki_keywords: audio preamplifier; ki_description: Self-Contained Audio Preamplifier, DIP-8; ki_fp_filters: DIP*W7.62mm*; Footprint: Package_DIP:DIP-8_W7.62mm; Datasheet: https://www.analog.com/media/en/technical-documentation/obsolete-data-sheets/139484016SSM2017.pdf
pins: 1 RG1, 2 -, 3 +, 4 V-, 5 REF, 6, 7 V+, 8 RG2

## SSM2018
designator *  value SSM2018  Reference: U
ki_keywords: audio VCA; ki_description: Trimless Voltage Controlled Amplifier, DIP-16; ki_fp_filters: DIP*W7.62mm*; Footprint: Package_DIP:DIP-16_W7.62mm; Datasheet: https://www.analog.com/media/en/technical-documentation/data-sheets/SSM2018.pdf
pins: 1 +I1-G, 2 V+, 3 -IG, 4 -I1-G, 5 COMP1, 6 +IN, 7 -IN, 8 COMP2, 9 COMP3, 10 V-, 11 VC, 12 MODE, 13 GND, 14 VG, 15 BAL, 16 V1-G
text: -; +; GAIN CORE

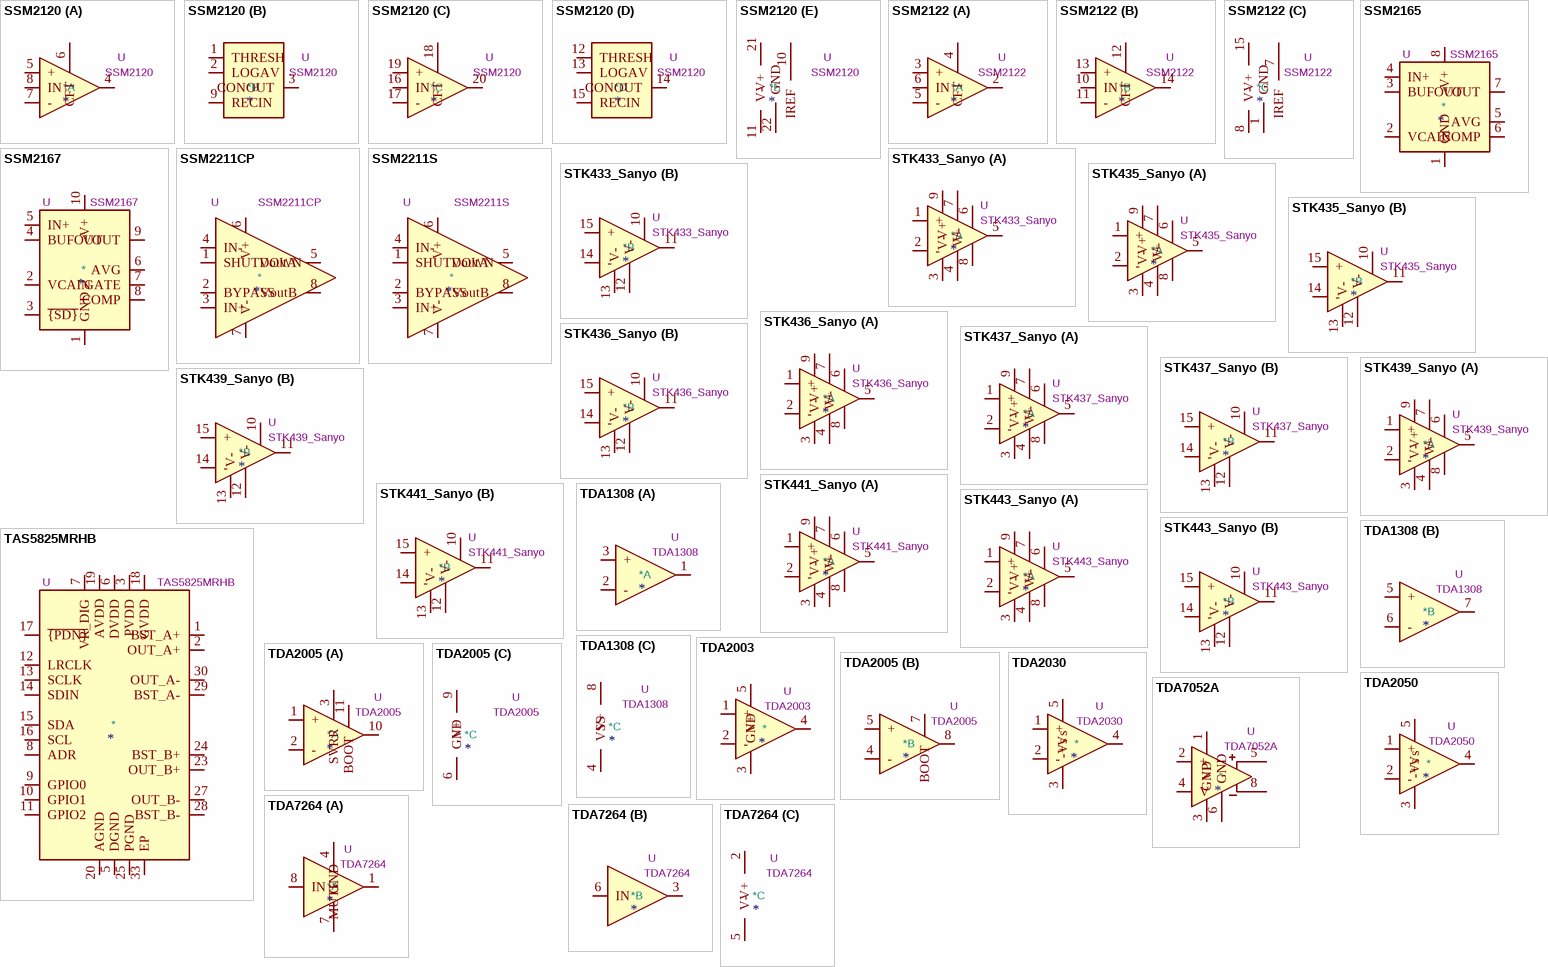
[diagram p2: symbols SSM2120 to TDA7264]

## SSM2120
designator *  value SSM2120  Reference: U
ki_keywords: audio VCA; ki_description: Dynamic Range Pprocessor/Dual VCA, DIP-22; ki_fp_filters: DIP*W7.62mm*; Footprint: Package_DIP:DIP-22_W7.62mm; Datasheet: https://www.analog.com/media/en/technical-documentation/obsolete-data-sheets/105738070SSM2120.pdf
part A pins: 4, 5 +, 6 CFT, 7 -, 8 IN
part B pins: 1 THRESH, 2 LOGAV, 3 CONOUT, 9 RECIN
part C pins: 16 IN, 17 -, 18 CFT, 19 +, 20
part D pins: 12 THRESH, 13 LOGAV, 14 CONOUT, 15 RECIN
part E pins: 10 IREF, 11 V-, 21 V+, 22 GND

## SSM2122
designator *  value SSM2122  Reference: U
ki_keywords: audio VCA; ki_description: Dynamic Range Pprocessor/Dual VCA, DIP-16; ki_fp_filters: DIP*W7.62mm*; Footprint: Package_DIP:DIP-16_W7.62mm; Datasheet: https://www.analog.com/media/en/technical-documentation/obsolete-data-sheets/105738070SSM2120.pdf
part A pins: 2, 3 +, 4 CFT, 5 -, 6 IN
part B pins: 10 IN, 11 -, 12 CFT, 13 +, 14
part C pins: 1 GND, 7 IREF, 8 V-, 9 GND hidden, 15 V+, 16 GND hidden

## SSM2165
designator *  value SSM2165  Reference: U
ki_keywords: audio microphone preamplifier; ki_description: Microphone Preamplifier with Variable Compression and Noise Gating, DIP-8/SOIC-8; ki_fp_filters: SOIC*3.9x4.9mm*P1.27mm* DIP*W7.62mm*; Datasheet: https://www.analog.com/media/en/technical-documentation/obsolete-data-sheets/SSM2165.PDF
pins: 1 GND, 2 VCAIN, 3 BUFOUT, 4 IN+, 5 AVG, 6 COMP, 7 VOUT, 8 V+

## SSM2167
designator *  value SSM2167  Reference: U
ki_keywords: audio microphone amplifier; ki_description: Low Voltage Microphone Preamplifier with Variable Compression and Noise Gating, MSOP-10; ki_fp_filters: MSOP*3x3mm*P0.5mm*; Footprint: Package_SO:MSOP-10_3x3mm_P0.5mm; Datasheet: https://www.analog.com/media/en/technical-documentation/data-sheets/SSM2167.pdf
pins: 1 GND, 2 VCAIN, 3 ~{{SD}}, 4 BUFOUT, 5 IN+, 6 AVG, 7 GATE, 8 COMP, 9 VOUT, 10 V+

## SSM2211CP
designator *  value SSM2211CP  Reference: U
ki_keywords: audio amplifier; ki_description: 1.5W BTL or 250mW SE 4MHz-bandwidth high performance amplifier, LFCSP-8; ki_fp_filters: LFCSP*1EP*3x3mm*P0.5mm*; Footprint: Package_CSP:LFCSP-8-1EP_3x3mm_P0.5mm_EP1.45x1.74mm; Datasheet: https://www.analog.com/media/en/technical-documentation/data-sheets/SSM2211.pdf
pins: 1 SHUTDOWN, 2 BYPASS, 3 IN+, 4 IN-, 5 VoutA, 6 V+, 7 V-, 8 VoutB, 9 V- hidden

## SSM2211S
designator *  value SSM2211S  Reference: U
ki_keywords: audio amplifier; ki_description: 1.5W BTL or 250mW SE 4MHz-bandwidth high performance amplifier, SOIC-8; ki_fp_filters: SOIC*3.9x4.9mm*P1.27mm*; Footprint: Package_SO:SOIC-8_3.9x4.9mm_P1.27mm; Datasheet: https://www.analog.com/media/en/technical-documentation/data-sheets/SSM2211.pdf
pins: 1 SHUTDOWN, 2 BYPASS, 3 IN+, 4 IN-, 5 VoutA, 6 V+, 7 V-, 8 VoutB

## STK433_Sanyo
designator *  value STK433_Sanyo  Reference: U
ki_keywords: audio amplifier 2ch; ki_description: 2-Channel 5 Wmin Audio Frequency Power Amplifier, 4010, SIP-15; ki_fp_filters: Sanyo*59.2x8.0mm*P2.54mm*; Footprint: Package_SIP:Sanyo_STK4xx-15_59.2x8.0mm_P2.54mm; Datasheet: http://datasheet.octopart.com/STK430-Sanyo-datasheet-107060.pdf
part A pins: 1 +, 2 -, 3 V-, 4 V-, 5, 6, 7 V+, 8, 9 V+
part B pins: 10, 11, 12 V-, 13 V-, 14 -, 15 +

## STK435_Sanyo
designator *  value STK435_Sanyo  Reference: U
ki_keywords: audio amplifier 2ch; ki_description: 2-Channel 7 Wmin Audio Frequency Power Amplifier, 4010, SIP-15; ki_fp_filters: Sanyo*59.2x8.0mm*P2.54mm*; Footprint: Package_SIP:Sanyo_STK4xx-15_59.2x8.0mm_P2.54mm; Datasheet: http://datasheet.octopart.com/STK430-Sanyo-datasheet-107060.pdf
part A pins: 1 +, 2 -, 3 V-, 4 V-, 5, 6, 7 V+, 8, 9 V+
part B pins: 10, 11, 12 V-, 13 V-, 14 -, 15 +

## STK436_Sanyo
designator *  value STK436_Sanyo  Reference: U
ki_keywords: audio amplifier 2ch; ki_description: 2-Channel 10 Wmin Audio Frequency Power Amplifier, 4010, SIP-15; ki_fp_filters: Sanyo*59.2x8.0mm*P2.54mm*; Footprint: Package_SIP:Sanyo_STK4xx-15_59.2x8.0mm_P2.54mm; Datasheet: http://datasheet.octopart.com/STK430-Sanyo-datasheet-107060.pdf
part A pins: 1 +, 2 -, 3 V-, 4 V-, 5, 6, 7 V+, 8, 9 V+
part B pins: 10, 11, 12 V-, 13 V-, 14 -, 15 +

## STK437_Sanyo
designator *  value STK437_Sanyo  Reference: U
ki_keywords: audio amplifier 2ch; ki_description: 2-Channel 12 Wmin Audio Frequency Power Amplifier, 4010, SIP-15; ki_fp_filters: Sanyo*78.0x8.0mm*P2.54mm*; Footprint: Package_SIP:Sanyo_STK4xx-15_78.0x8.0mm_P2.54mm; Datasheet: http://datasheet.octopart.com/STK430-Sanyo-datasheet-107060.pdf
part A pins: 1 +, 2 -, 3 V-, 4 V-, 5, 6, 7 V+, 8, 9 V+
part B pins: 10, 11, 12 V-, 13 V-, 14 -, 15 +

## STK439_Sanyo
designator *  value STK439_Sanyo  Reference: U
ki_keywords: audio amplifier 2ch; ki_description: 2-Channel 16 Wmin Audio Frequency Power Amplifier, 4010, SIP-15; ki_fp_filters: Sanyo*78.0x8.0mm*P2.54mm*; Footprint: Package_SIP:Sanyo_STK4xx-15_78.0x8.0mm_P2.54mm; Datasheet: http://datasheet.octopart.com/STK430-Sanyo-datasheet-107060.pdf
part A pins: 1 +, 2 -, 3 V-, 4 V-, 5, 6, 7 V+, 8, 9 V+
part B pins: 10, 11, 12 V-, 13 V-, 14 -, 15 +

## STK441_Sanyo
designator *  value STK441_Sanyo  Reference: U
ki_keywords: audio amplifier 2ch; ki_description: 2-Channel 24 Wmin Audio Frequency Power Amplifier, 4010, SIP-15; ki_fp_filters: Sanyo*78.0x8.0mm*P2.54mm*; Footprint: Package_SIP:Sanyo_STK4xx-15_78.0x8.0mm_P2.54mm; Datasheet: http://datasheet.octopart.com/STK430-Sanyo-datasheet-107060.pdf
part A pins: 1 +, 2 -, 3 V-, 4 V-, 5, 6, 7 V+, 8, 9 V+
part B pins: 10, 11, 12 V-, 13 V-, 14 -, 15 +

## STK443_Sanyo
designator *  value STK443_Sanyo  Reference: U
ki_keywords: audio amplifier 2ch; ki_description: 2-Channel 28 Wmin Audio Frequency Power Amplifier, 4010, SIP-15; ki_fp_filters: Sanyo*78.0x8.0mm*P2.54mm*; Footprint: Package_SIP:Sanyo_STK4xx-15_78.0x8.0mm_P2.54mm; Datasheet: http://datasheet.octopart.com/STK430-Sanyo-datasheet-107060.pdf
part A pins: 1 +, 2 -, 3 V-, 4 V-, 5, 6, 7 V+, 8, 9 V+
part B pins: 10, 11, 12 V-, 13 V-, 14 -, 15 +

## TAS5825MRHB
designator *  value TAS5825MRHB  Reference: U
ki_keywords: Class-D Stereo; ki_description: 38-W Stereo, Inductor-Less, Digital Input, Closed-Loop Class-D Audio Amplifier with 192-kHz Extended Audio Processing, VQFN-32; ki_fp_filters: VQFN*1EP*5x5mm*P0.5mm*; Footprint: Package_DFN_QFN:VQFN-32-1EP_5x5mm_P0.5mm_EP3.1x3.1mm; Datasheet: www.ti.com/lit/ds/symlink/tas5825m.pdf
pins: 1 BST_A+, 2 OUT_A+, 3 PVDD, 4 PVDD hidden, 5 DGND, 6 DVDD, 7 VR_DIG, 8 ADR, 9 GPIO0, 10 GPIO1, 11 GPIO2, 12 LRCLK, 13 SCLK, 14 SDIN, 15 SDA, 16 SCL, 17 ~{{PDN}}, 18 GVDD, 19 AVDD, 20 AGND, 21 PVDD hidden, 22 PVDD hidden, 23 OUT_B+, 24 BST_B+, 25 PGND, 26 PGND hidden, 27 OUT_B-, 28 BST_B-, 29 BST_A-, 30 OUT_A-, 31 PGND hidden, 32 PGND hidden, 33 EP

## TDA1308
designator *  value TDA1308  Reference: U
ki_keywords: audio amplifier; ki_description: Class-AB Stereo Headphone Driver, SOIC-8/TSSOP-8; ki_fp_filters: SOIC*3.9x4.9mm*P1.27mm* TSSOP*3x3mm*P0.65mm*; Datasheet: https://www.nxp.com/docs/en/data-sheet/TDA1308.pdf
part A pins: 1, 2 -, 3 +
part B pins: 5 +, 6 -, 7
part C pins: 4 VSS, 8 V+

## TDA2003
designator *  value TDA2003  Reference: U
ki_keywords: audio amplifier; ki_description: 10W Car Radio Audio Amplifier, TO-220-5; ki_fp_filters: TO*220*StaggerOdd*; Footprint: Package_TO_SOT_THT:TO-220-5_P3.4x3.7mm_StaggerOdd_Lead3.8mm_Vertical; Datasheet: http://www.st.com/resource/en/datasheet/cd00000123.pdf
pins: 1 +, 2 -, 3 GND, 4, 5 V+

## TDA2005
designator *  value TDA2005  Reference: U
ki_keywords: audio amplifier; ki_description: 20W Bridge/Stereo Amplifier for Car Radio, TO-220-11; ki_fp_filters: TO?220*StaggerOdd*; Footprint: Package_TO_SOT_THT:TO-220-11_P3.4x5.08mm_StaggerOdd_Lead4.85mm_Vertical; Datasheet: http://www.st.com/resource/en/datasheet/cd00000124.pdf
part A pins: 1 +, 2 -, 3 SVRR, 10, 11 BOOT
part B pins: 4 -, 5 +, 7 BOOT, 8
part C pins: 6 GND, 9 V+

## TDA2030
designator *  value TDA2030  Reference: U
ki_keywords: audio amplifier; ki_description: 14W Hi-Fi Audio Amplifier, TO-220-5; ki_fp_filters: TO*220*StaggerOdd*; Footprint: Package_TO_SOT_THT:TO-220-5_P3.4x3.7mm_StaggerOdd_Lead3.8mm_Vertical; Datasheet: http://www.st.com/resource/en/datasheet/cd00000128.pdf
pins: 1 +, 2 -, 3 -Vs, 4, 5 +Vs

## TDA2050
designator *  value TDA2050  Reference: U
ki_keywords: audio amplifier; ki_description: 32W Hi-Fi Audio Amplifier, TO-220-5; ki_fp_filters: TO*220*StaggerOdd*; Footprint: Package_TO_SOT_THT:TO-220-5_P3.4x3.7mm_StaggerOdd_Lead3.8mm_Vertical; Datasheet: http://www.st.com/resource/en/datasheet/cd00000131.pdf
pins: 1 +, 2 -, 3 -Vs, 4, 5 +Vs

## TDA7052A
designator *  value TDA7052A  Reference: U
ki_keywords: audio amplifier; ki_description: 1W BTL mono audio amplifier with DC volume control, DIP-8/SOIC-8; ki_fp_filters: SOIC*7.5x9mm*P1.27mm* DIP*W7.62mm*; Datasheet: http://www.nxp.com/docs/en/data-sheet/TDA7052A_AT.pdf
pins: 1 VP, 2 +, 3 GND, 4 V, 5, 6 GND, 7 NC hidden, 8

## TDA7264
designator *  value TDA7264  Reference: U
ki_keywords: audio amplifier 2ch; ki_description: 25W + 25W stereo amplifier with mute and standby, TO-220-8; ki_fp_filters: TO?220*; Footprint: Package_TO_SOT_THT:TO-220-8_Vertical; Datasheet: http://www.st.com/resource/en/datasheet/tda7264.pdf
part A pins: 1, 4 MUTE, 7 GND, 8 IN
part B pins: 3, 6 IN
part C pins: 2 V+, 5 V-

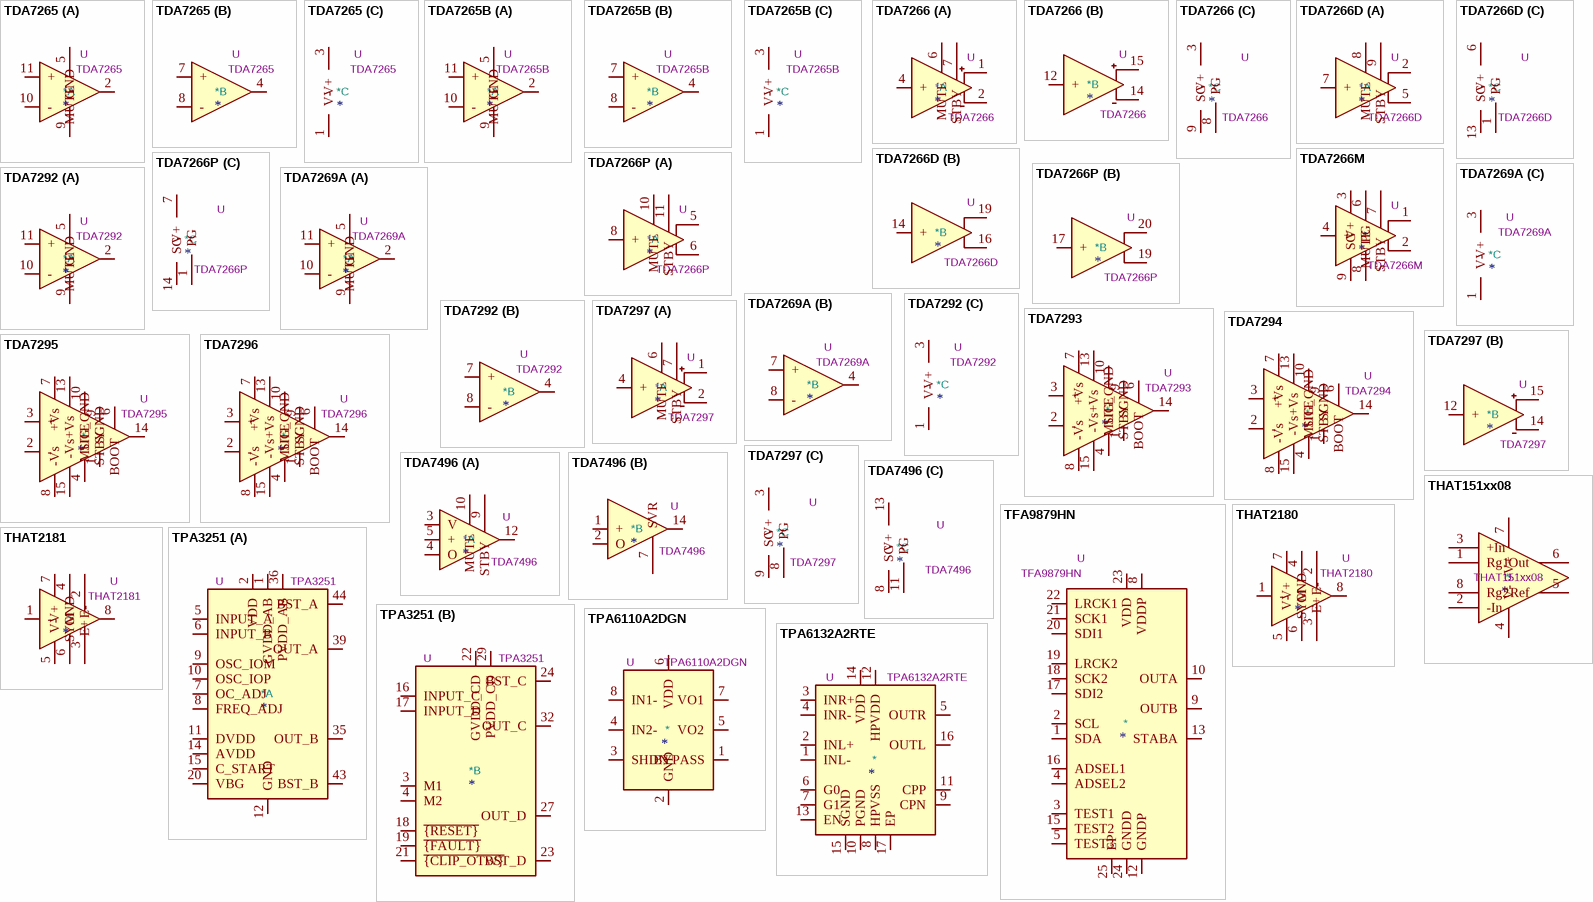
[diagram p3: symbols TDA7265 to TPA6132A2RTE]

## TDA7265
designator *  value TDA7265  Reference: U
ki_keywords: audio amplifier 2ch; ki_description: 25W +25W Stereo Amplifier with Mute & St-by, TO-220-11; ki_fp_filters: TO?220*StaggerOdd*; Footprint: Package_TO_SOT_THT:TO-220-11_P3.4x5.08mm_StaggerOdd_Lead4.85mm_Vertical; Datasheet: http://www.st.com/resource/en/datasheet/tda7265.pdf
part A pins: 2, 5 MUTE, 9 GND, 10 -, 11 +
part B pins: 4, 7 +, 8 -
part C pins: 1 V-, 3 V+, 6 V- hidden

## TDA7265B
designator *  value TDA7265B  Reference: U
ki_keywords: audio amplifier 2ch; ki_description: 30W + 30W Stereo Amplifier with Mute and Standby, TO-220-11; ki_fp_filters: TO?220*StaggerOdd*; Footprint: Package_TO_SOT_THT:TO-220-11_P3.4x5.08mm_StaggerOdd_Lead4.85mm_Vertical; Datasheet: http://www.st.com/resource/en/datasheet/tda7265b.pdf
part A pins: 2, 5 MUTE, 9 GND, 10 -, 11 +
part B pins: 4, 7 +, 8 -
part C pins: 1 V-, 3 V+, 6 V- hidden

## TDA7266
designator *  value TDA7266  Reference: U
ki_keywords: audio amplifier 2ch; ki_description: 7+7W Dual Bridge Amplifier, TO-220-15; ki_fp_filters: TO?220*StaggerOdd*; Footprint: Package_TO_SOT_THT:TO-220-15_P2.54x2.54mm_StaggerOdd_Lead4.58mm_Vertical; Datasheet: http://www.st.com/resource/en/datasheet/tda7266.pdf
part A pins: 1, 2, 4 +, 5 NC hidden, 6 MUTE, 7 STBY, 10 NC hidden, 11 NC hidden
part B pins: 12 +, 14, 15
part C pins: 3 V+, 8 PG, 9 SG, 13 V+ hidden

## TDA7266D
designator *  value TDA7266D  Reference: U
ki_keywords: audio amplifier 2ch; ki_description: 5W+5W Dual Bridge Amplifier, PowerSO-20; ki_fp_filters: HSOP*EP*11.0x15.9mm*P1.27mm*SlugDown*; Footprint: Package_SO:HSOP-20-1EP_11.0x15.9mm_P1.27mm_SlugDown; Datasheet: http://www.st.com/resource/en/datasheet/tda7266d.pdf
part A pins: 2, 3 NC hidden, 4 NC hidden, 5, 7 +, 8 MUTE, 9 STBY, 12 NC hidden, 17 NC hidden, 18 NC hidden
part B pins: 14 +, 16, 19
part C pins: 1 PG, 6 V+, 10 PG hidden, 11 PG hidden, 13 SG, 15 V+ hidden, 20 PG hidden

## TDA7266M
designator *  value TDA7266M  Reference: U
ki_keywords: audio amplifier; ki_description: 7W Mono Bridge Amplifier, TO-220-15; ki_fp_filters: TO?220*StaggerOdd*; Footprint: Package_TO_SOT_THT:TO-220-15_P2.54x2.54mm_StaggerOdd_Lead4.58mm_Vertical; Datasheet: http://www.st.com/resource/en/datasheet/tda7266m.pdf
pins: 1, 2, 3 V+, 4 +, 5 NC hidden, 6 MUTE, 7 STBY, 8 PG, 9 SG, 10 NC hidden, 11 NC hidden, 12 NC hidden, 13 V+ hidden, 14 NC hidden, 15 NC hidden

## TDA7266P
designator *  value TDA7266P  Reference: U
ki_keywords: audio amplifier 2ch; ki_description: 3W+3W Dual Bridge Amplifier, PowerSSO-24; ki_fp_filters: ST*PowerSSO*SlugDown*; Footprint: Package_SO:ST_PowerSSO-24_SlugDown; Datasheet: http://www.st.com/resource/en/datasheet/tda7266p.pdf
part A pins: 2 NC hidden, 3 NC hidden, 4 NC hidden, 5, 6, 8 +, 9 NC hidden, 10 MUTE, 11 STBY, 12 NC hidden, 13 NC hidden, 15 NC hidden, 16 NC hidden, 21 NC hidden, 22 NC hidden, 23 NC hidden
part B pins: 17 +, 19, 20
part C pins: 1 PG, 7 V+, 14 SG, 18 V+ hidden, 24 PG hidden

## TDA7269A
designator *  value TDA7269A  Reference: U
ki_keywords: audio amplfier 2ch; ki_description: 14W+14W Stereo Amplifier with Mute & St-by, TO-220-11; ki_fp_filters: TO?220*StaggerOdd*; Footprint: Package_TO_SOT_THT:TO-220-11_P3.4x5.08mm_StaggerOdd_Lead4.85mm_Vertical; Datasheet: http://www.st.com/resource/en/datasheet/tda7269a.pdf
part A pins: 2, 5 MUTE, 9 GND, 10 -, 11 +
part B pins: 4, 7 +, 8 -
part C pins: 1 V-, 3 V+, 6 V- hidden

## TDA7292
designator *  value TDA7292  Reference: U
ki_keywords: audio amplifier 2ch; ki_description: 40W + 40W stereo amplifier with mute and standby, TO-220-11; ki_fp_filters: TO?220*StaggerOdd*; Footprint: Package_TO_SOT_THT:TO-220-11_P3.4x5.08mm_StaggerOdd_Lead4.85mm_Vertical; Datasheet: http://www.st.com/resource/en/datasheet/tda7292.pdf
part A pins: 2, 5 MUTE, 9 GND, 10 -, 11 +
part B pins: 4, 7 +, 8 -
part C pins: 1 V-, 3 V+, 6 V- hidden

## TDA7293
designator *  value TDA7293  Reference: U
ki_keywords: audio amplifier; ki_description: 120-volt, 100-watt, DMOS Audio Amplifier with Mute and Standby, TO-220-15; ki_fp_filters: TO?220*StaggerOdd*; Footprint: Package_TO_SOT_THT:TO-220-15_P2.54x2.54mm_StaggerOdd_Lead4.58mm_Vertical; Datasheet: http://www.st.com/resource/en/datasheet/tda7293.pdf
pins: 1 SGND, 2 -, 3 +, 4 SIG_GND, 5 NC hidden, 6 BOOT, 7 +Vs, 8 -Vs, 9 STBY, 10 MUTE, 11 NC hidden, 12 NC hidden, 13 +Vs, 14, 15 -Vs

## TDA7294
designator *  value TDA7294  Reference: U
ki_keywords: audio amplifier; ki_description: 100V - 100W DMOS Audio Amplifier with Mute/St-by, TO-220-15; ki_fp_filters: TO?220*StaggerOdd*; Footprint: Package_TO_SOT_THT:TO-220-15_P2.54x2.54mm_StaggerOdd_Lead4.58mm_Vertical; Datasheet: http://www.st.com/resource/en/datasheet/tda7294.pdf
pins: 1 SGND, 2 -, 3 +, 4 SIG_GND, 5 NC hidden, 6 BOOT, 7 +Vs, 8 -Vs, 9 STBY, 10 MUTE, 11 NC hidden, 12 NC hidden, 13 +Vs, 14, 15 -Vs

## TDA7295
designator *  value TDA7295  Reference: U
ki_keywords: audio amplifier; ki_description: 80V - 80W DMOS Audio Amplifier with Mute/St-by, TO-220-15; ki_fp_filters: TO?220*StaggerOdd*; Footprint: Package_TO_SOT_THT:TO-220-15_P2.54x2.54mm_StaggerOdd_Lead4.58mm_Vertical; Datasheet: http://www.st.com/resource/en/datasheet/tda7295.pdf
pins: 1 SGND, 2 -, 3 +, 4 SIG_GND, 5 NC hidden, 6 BOOT, 7 +Vs, 8 -Vs, 9 STBY, 10 MUTE, 11 NC hidden, 12 NC hidden, 13 +Vs, 14, 15 -Vs

## TDA7296
designator *  value TDA7296  Reference: U
ki_keywords: audio amplifier; ki_description: 70V - 60W DMOS Audio Amplifier with Mute/St-by, TO-220-15; ki_fp_filters: TO?220*StaggerOdd*; Footprint: Package_TO_SOT_THT:TO-220-15_P2.54x2.54mm_StaggerOdd_Lead4.58mm_Vertical; Datasheet: http://www.st.com/resource/en/datasheet/tda7296.pdf
pins: 1 SGND, 2 -, 3 +, 4 SIG_GND, 5 NC hidden, 6 BOOT, 7 +Vs, 8 -Vs, 9 STBY, 10 MUTE, 11 NC hidden, 12 NC hidden, 13 +Vs, 14, 15 -Vs

## TDA7297
designator *  value TDA7297  Reference: U
ki_keywords: audio amplifier 2ch; ki_description: 15+15W Dual Bridge Amplifier, TO-220-15; ki_fp_filters: TO?220*StaggerOdd*; Footprint: Package_TO_SOT_THT:TO-220-15_P2.54x2.54mm_StaggerOdd_Lead4.58mm_Vertical; Datasheet: http://www.st.com/resource/en/datasheet/tda7297.pdf
part A pins: 1, 2, 4 +, 5 NC hidden, 6 MUTE, 7 STBY, 10 NC hidden, 11 NC hidden
part B pins: 12 +, 14, 15
part C pins: 3 V+, 8 PG, 9 SG, 13 V+ hidden

## TDA7496
designator *  value TDA7496  Reference: U
ki_keywords: audio amplifier 2ch; ki_description: 5W+5W Amplifier with DC Volume Control, TO-220-15; ki_fp_filters: TO?220*StaggerOdd*; Footprint: Package_TO_SOT_THT:TO-220-15_P2.54x2.54mm_StaggerOdd_Lead4.58mm_Vertical; Datasheet: http://www.st.com/resource/en/datasheet/tda7297.pdf
part A pins: 3 V, 4 O, 5 +, 6 NC hidden, 9 STBY, 10 MUTE, 12
part B pins: 1 +, 2 O, 7 SVR, 14
part C pins: 8 SG, 11 PG, 13 V+, 15 PG hidden

## TFA9879HN
designator *  value TFA9879HN  Reference: U
ki_keywords: Audio Amplifier Class D NXP Semiconductors; ki_description: Mono BTL class-D audio amplifier for portable applications with digital input, HVQFN-24; ki_fp_filters: HVQFN*1EP*4x4mm*P0.5mm*; Footprint: Package_DFN_QFN:HVQFN-24-1EP_4x4mm_P0.5mm_EP2.6x2.6mm_ThermalVias; Datasheet: https://www.nxp.com/docs/en/data-sheet/TFA9879.pdf
pins: 1 SDA, 2 SCL, 3 TEST1, 4 ADSEL2, 5 TEST3, 6 NC hidden, 7 VDDP hidden, 8 VDDP, 9 OUTB, 10 OUTA, 11 GNDP hidden, 12 GNDP, 13 STABA, 14 NC hidden, 15 TEST2, 16 ADSEL1, 17 SDI2, 18 SCK2, 19 LRCK2, 20 SDI1, 21 SCK1, 22 LRCK1, 23 VDD, 24 GNDD, 25 EP

## THAT151xx08
designator *  value THAT151xx08  Reference: U
ki_keywords: Audio Preamplifier; ki_description: Low-Noise, High Performance Audio Preamplifier IC; ki_fp_filters: DIP*W7.62mm* SOIC*3.9x4.9mm*P1.27mm*; Datasheet: https://www.thatcorp.com/datashts/THAT_1510-1512_Datasheet.pdf
pins: 1 Rg1, 2 -In, 3 +In, 4 V-, 5 Ref, 6 Out, 7 V+, 8 Rg2

## THAT2180
designator *  value THAT2180  Reference: U
ki_keywords: audio vca; ki_description: Blackmer Pre-Trimmed IC Voltage Controlled Amplifiers, SIP-8; ki_fp_filters: SIP*19x3mm*P2.54mm*; Footprint: Package_SIP:SIP-8_19x3mm_P2.54mm; Datasheet: http://www.thatcorp.com/datashts/THAT_2180-Series_Datasheet.pdf
pins: 1 -, 2 E+, 3 E-, 4 SYM, 5 V-, 6 GND, 7 V+, 8

## THAT2181
designator *  value THAT2181  Reference: U
ki_keywords: audio vca; ki_description: Blackmer Trimmable IC Voltage Controlled Amplifiers, SIP-8/SOIC-8; ki_fp_filters: SIP*19x3mm*P2.54mm* SOIC*3.9x4.9mm*P1.27mm*; Datasheet: http://www.thatcorp.com/datashts/THAT_2181-Series_Datasheet.pdf
pins: 1 -, 2 E+, 3 E-, 4 SYM, 5 V-, 6 GND, 7 V+, 8

## TPA3251
designator *  value TPA3251  Reference: U
ki_keywords: stereo class d amplifier; ki_description: 175-W Stereo, 350-W Mono PurePath Ultra-HD Analog-Input Class-D Amplifier, HTSSOP-44; ki_fp_filters: HTSSOP*6.1x14mm*P0.635mm*; Footprint: Package_SO:HTSSOP-44_6.1x14mm_P0.635mm_TopEP4.14x7.01mm; Datasheet: http://www.ti.com/lit/ds/symlink/tpa3251.pdf
part A pins: 1 GVDD_AB, 2 VDD, 5 INPUT_A, 6 INPUT_B, 7 OC_ADJ, 8 FREQ_ADJ, 9 OSC_IOM, 10 OSC_IOP, 11 DVDD, 12 GND, 13 GND hidden, 14 AVDD, 15 C_START, 20 VBG, 25 GND hidden, 26 GND hidden, 33 GND hidden, 34 GND hidden, 35 OUT_B, 36 PVDD_AB, 37 PVDD_AB hidden, 38 PVDD_AB hidden, 39 OUT_A, 40 OUT_A hidden, 41 GND hidden, 42 GND hidden, 43 BST_B, 44 BST_A
part B pins: 3 M1, 4 M2, 16 INPUT_C, 17 INPUT_D, 18 ~{{RESET}}, 19 ~{{FAULT}}, 21 ~{{CLIP_OTW}}, 22 GVDD_CD, 23 BST_D, 24 BST_C, 27 OUT_D, 28 OUT_D hidden, 29 PVDD_CD, 30 PVDD_CD hidden, 31 PVDD_CD hidden, 32 OUT_C

## TPA6110A2DGN
designator *  value TPA6110A2DGN  Reference: U
ki_keywords: audio amplifier headphone; ki_description: 150-mW Stereo Audio Power Amplifier, HVSSOP; ki_fp_filters: HVSSOP*3x3mm*P0.65mm*; Footprint: Package_SO:HVSSOP-8-1EP_3x3mm_P0.65mm_EP1.57x1.89mm; Datasheet: https://www.ti.com/lit/ds/symlink/tpa6110a2.pdf
pins: 1 BYPASS, 2 GND, 3 SHDN, 4 IN2-, 5 VO2, 6 VDD, 7 VO1, 8 IN1-, 9 GND hidden